# Altium footprint library IC-SMD.PCBLIB: 298 footprints (part 19 of 19)
Each footprint in its own frame and in the unit in brackets; x right, y up, seen from the top. Pads: shape width x height; smd on the part's side, far side on the other; paste and mask are expansions set on the pad; w line width, h text height; cw(c..) or ccw(c..) is an arc to the next point about the centre after c.
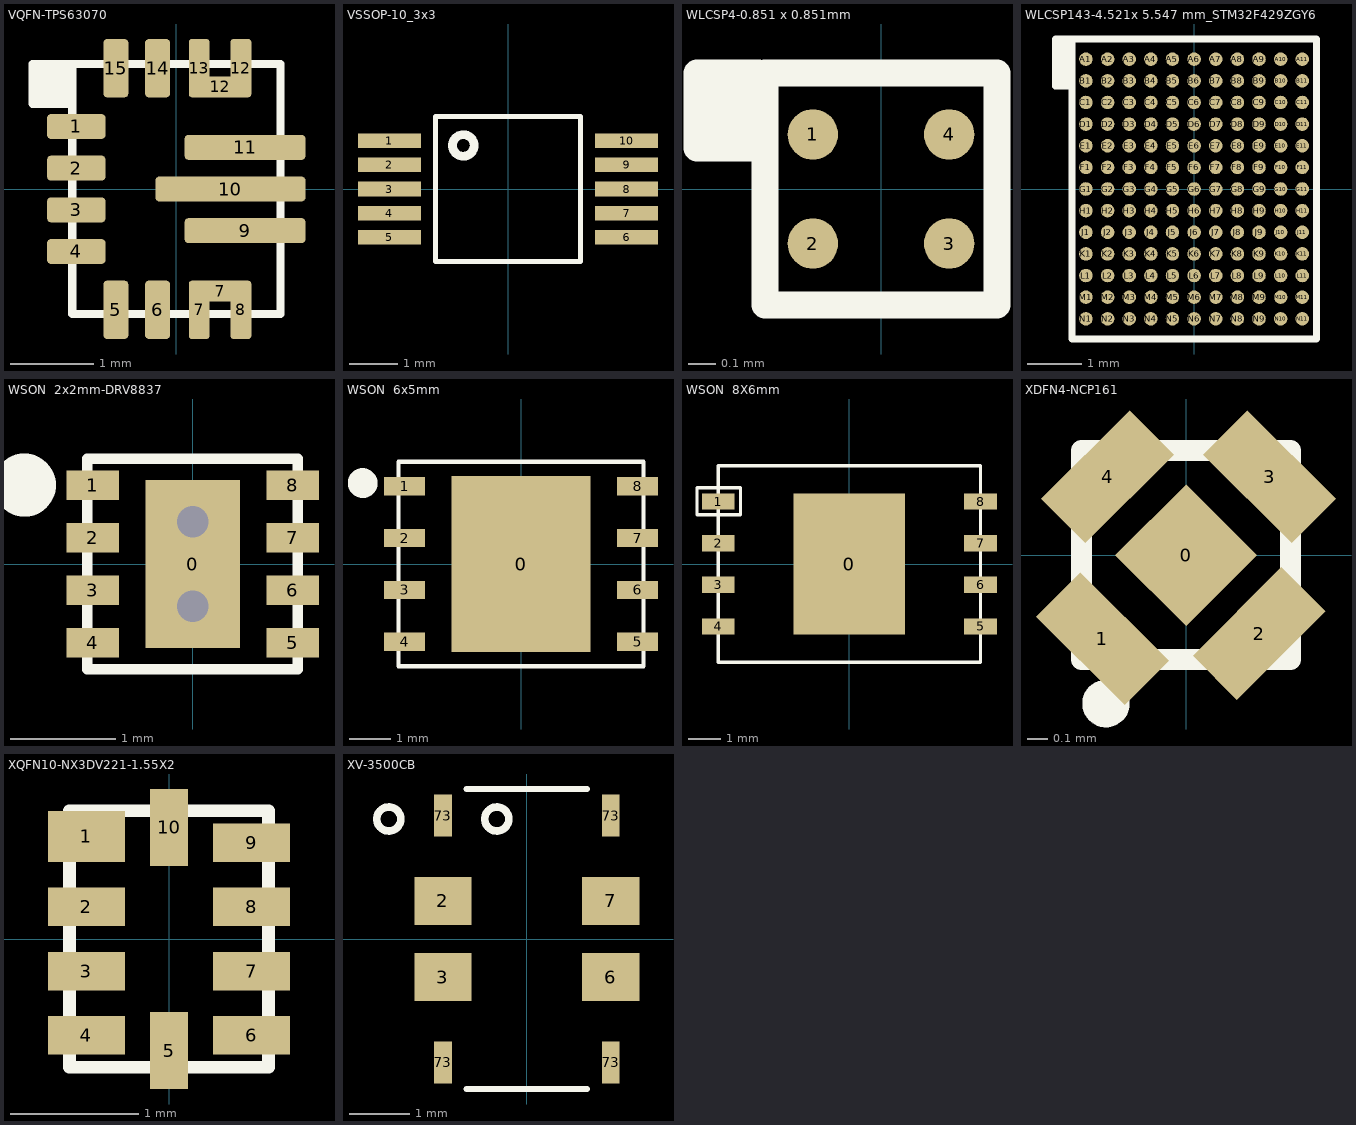
[diagram p18: the footprints below, top view; thin cyan lines are the x and y axes]

## VQFN-TPS63070 [mm] "VQFN-TPS63070"
pads (17):
  rrect30% 0.7x0.3 smd mask+0.05: 1(-1.2,0.75) 2(-1.2,0.25) 3(-1.2,-0.25) 4(-1.2,-0.75)
  rrect30% 0.3x0.7 smd mask+0.05: 5(-0.725,-1.45) 6(-0.225,-1.45) 14(-0.225,1.45) 15(-0.725,1.45)
  rrect30% 0.25x0.7 smd mask+0.05: 7(0.275,-1.45) 8(0.775,-1.45) 12(0.775,1.45) 13(0.275,1.45)
  rrect30% 0.7x0.25 smd mask+0.05: 7(0.525,-1.225) 12(0.525,1.225)
  rrect30% 1.45x0.3 smd mask+0.05: 9(0.825,-0.5) 11(0.825,0.5)
  rrect30% 1.8x0.3 smd mask+0.05: 10(0.65,0)
TopOverlay:
  rectangle: -1.725,1.05 -1.25,1.5
  lines w0.1: -1.25,1.025 -1.725,1.025 -1.725,1.5 -1.25,1.5 ; -1.25,1.5 1.25,1.5 1.25,-1.5 -1.25,-1.5 -1.25,1.5

## VSSOP-10_3x3 [mm] "VSSOP-10_3x3"
pads (10):
  rect 1.3x0.3 smd: 1(-2.45,1) 2(-2.45,0.5) 3(-2.45,0) 4(-2.45,-0.5) 5(-2.45,-1) 6(2.45,-1) 7(2.45,-0.5) 8(2.45,0) 9(2.45,0.5) 10(2.45,1)
TopOverlay:
  circle w0.18: c-0.924,0.9 r0.224
  lines w0.1: -1.5,-1.5 1.5,-1.5 1.5,1.5 -1.5,1.5 -1.5,-1.5

## WLCSP4-0.851 x 0.851mm [mm] "WLCSP4-0.851 x 0.851mm"
pads (4):
  round 0.185 smd mask+0.05: 1(-0.25,0.2) 2(-0.25,-0.2) 3(0.25,-0.2) 4(0.25,0.2)
TopLayer:
  pour cut-out: -0.65,0.4
TopOverlay:
  lines w0.1: -0.6,0.15 -0.6,0.425 ; -0.525,0.15 -0.525,0.425 ; -0.675,0.15 -0.675,0.425 -0.45,0.425 -0.45,0.15 -0.675,0.15 ; -0.426,-0.426 0.426,-0.426 0.426,0.426 -0.426,0.426 -0.426,-0.426

## WLCSP143-4.521x 5.547 mm_STM32F429ZGY6 [mm] "WLCSP143-4.521x 5.547 mm_STM32F429ZGY6"
pads (143):
  round 0.25 smd mask+0.05: A1(-2,2.4) A2(-1.6,2.4) A3(-1.2,2.4) A4(-0.8,2.4) A5(-0.4,2.4) A6(0,2.4) A7(0.4,2.4) A8(0.8,2.4) A9(1.2,2.4) A10(1.6,2.4) A11(2,2.4) B1(-2,2) B2(-1.6,2) B3(-1.2,2) B4(-0.8,2) B5(-0.4,2) B6(0,2) B7(0.4,2) B8(0.8,2) B9(1.2,2) B10(1.6,2) B11(2,2) C1(-2,1.6) C2(-1.6,1.6) C3(-1.2,1.6) C4(-0.8,1.6) C5(-0.4,1.6) C6(0,1.6) C7(0.4,1.6) C8(0.8,1.6) C9(1.2,1.6) C10(1.6,1.6) C11(2,1.6) D1(-2,1.2) D2(-1.6,1.2) D3(-1.2,1.2) D4(-0.8,1.2) D5(-0.4,1.2) D6(0,1.2) D7(0.4,1.2) D8(0.8,1.2) D9(1.2,1.2) D10(1.6,1.2) D11(2,1.2) E1(-2,0.8) E2(-1.6,0.8) E3(-1.2,0.8) E4(-0.8,0.8) E5(-0.4,0.8) E6(0,0.8) E7(0.4,0.8) E8(0.8,0.8) E9(1.2,0.8) E10(1.6,0.8) E11(2,0.8) F1(-2,0.4) F2(-1.6,0.4) F3(-1.2,0.4) F4(-0.8,0.4) F5(-0.4,0.4) F6(0,0.4) F7(0.4,0.4) F8(0.8,0.4) F9(1.2,0.4) F10(1.6,0.4) F11(2,0.4) G1(-2,0) G2(-1.6,0) G3(-1.2,0) G4(-0.8,0) G5(-0.4,0) G6(0,0) G7(0.4,0) G8(0.8,0) G9(1.2,0) G10(1.6,0) G11(2,0) H1(-2,-0.4) H2(-1.6,-0.4) H3(-1.2,-0.4) H4(-0.8,-0.4) H5(-0.4,-0.4) H6(0,-0.4) H7(0.4,-0.4) H8(0.8,-0.4) H9(1.2,-0.4) H10(1.6,-0.4) H11(2,-0.4) J1(-2,-0.8) J2(-1.6,-0.8) J3(-1.2,-0.8) J4(-0.8,-0.8) J5(-0.4,-0.8) J6(0,-0.8) J7(0.4,-0.8) J8(0.8,-0.8) J9(1.2,-0.8) J10(1.6,-0.8) J11(2,-0.8) K1(-2,-1.2) K2(-1.6,-1.2) K3(-1.2,-1.2) K4(-0.8,-1.2) K5(-0.4,-1.2) K6(0,-1.2) K7(0.4,-1.2) K8(0.8,-1.2) K9(1.2,-1.2) K10(1.6,-1.2) K11(2,-1.2) L1(-2,-1.6) L2(-1.6,-1.6) L3(-1.2,-1.6) L4(-0.8,-1.6) L5(-0.4,-1.6) L6(0,-1.6) L7(0.4,-1.6) L8(0.8,-1.6) L9(1.2,-1.6) L10(1.6,-1.6) L11(2,-1.6) M1(-2,-2) M2(-1.6,-2) M3(-1.2,-2) M4(-0.8,-2) M5(-0.4,-2) M6(0,-2) M7(0.4,-2) M8(0.8,-2) M9(1.2,-2) M10(1.6,-2) M11(2,-2) N1(-2,-2.4) N2(-1.6,-2.4) N3(-1.2,-2.4) N4(-0.8,-2.4) N5(-0.4,-2.4) N6(0,-2.4) N7(0.4,-2.4) N8(0.8,-2.4) N9(1.2,-2.4) N10(1.6,-2.4) N11(2,-2.4)
TopOverlay:
  rectangle: -2.561,1.9 -2.261,2.773
  lines w0.127: -2.261,1.9 -2.561,1.9 -2.561,2.773 -2.261,2.773 ; -2.261,2.773 2.261,2.773 2.261,-2.773 -2.261,-2.773 -2.261,2.773

## WSON  2x2mm-DRV8837 [mm] "WSON  2x2mm-DRV8837"
pads (9):
  rect 0.9x1.6 smd: 0(0,0)
  rect 0.5x0.28 smd: 1(-0.95,0.75) 2(-0.95,0.25) 3(-0.95,-0.25) 4(-0.95,-0.75) 5(0.95,-0.75) 6(0.95,-0.25) 7(0.95,0.25) 8(0.95,0.75)
via 0,-0.4 diameter 0.5 hole 0.3
via 0,0.4 diameter 0.5 hole 0.3
TopOverlay:
  circle w0.5: c-1.6,0.75 r0.05
  lines w0.1: -1,-1 -1,1 1,1 1,-1 -1,-1

## WSON  6x5mm [mm] "WSON  6x5mm"
pads (9):
  rect 3.4x4.3 smd: 0(0,0)
  rect 1x0.45 smd: 1(-2.85,1.905) 2(-2.85,0.635) 3(-2.85,-0.635) 4(-2.85,-1.905) 5(2.85,-1.905) 6(2.85,-0.635) 7(2.85,0.635) 8(2.85,1.905)
TopOverlay:
  circle w0.5: c-3.874,1.98 r0.114
  lines w0.1: -3,-2.5 -3,2.5 3,2.5 3,-2.5 -3,-2.5

## WSON  8X6mm [mm] "WSON  8X6mm"
pads (9):
  rect 3.4x4.3 smd: 0(0,0)
  rect 1x0.5 smd: 1(-4,1.905) 2(-4,0.635) 3(-4,-0.635) 4(-4,-1.905) 5(4,-1.905) 6(4,-0.635) 7(4,0.635) 8(4,1.905)
TopOverlay:
  lines w0.1: -4.65,1.5 -3.325,1.5 -3.325,2.325 -4.65,2.325 -4.65,1.5 ; -4,-3 4,-3 4,3 -4,3 -4,-3

## XDFN4-NCP161 [mm] "XDFN4-NCP161"
pads (5):
  rect 0.48x0.48 smd rot 45: 0(0,0)
  rect 0.3x0.6 smd rot 45: 1(-0.4,-0.4) 3(0.4,0.375)
  rect 0.3x0.6 smd rot 135: 2(0.35,-0.375) 4(-0.375,0.375)
TopOverlay:
  circle w0.127: c-0.383,-0.71 r0.05
  lines w0.1: -0.5,-0.5 0.5,-0.5 0.5,0.5 -0.5,0.5 -0.5,-0.5

## XQFN10-NX3DV221-1.55X2 [mm] "XQFN10-NX3DV221-1.55X2"
pads (10):
  rect 0.6x0.4 smd: 1(-0.645,0.8)
  rect 0.6x0.3 smd: 2(-0.645,0.25) 3(-0.645,-0.25) 4(-0.645,-0.75) 6(0.645,-0.75) 7(0.645,-0.25) 8(0.645,0.25) 9(0.645,0.75)
  rect 0.3x0.6 smd: 5(0,-0.87) 10(0,0.87)
TopOverlay:
  lines w0.1: -0.775,-1 -0.775,1 0.775,1 0.775,-1 -0.775,-1

## XV-3500CB [mm]
pads (8):
  rect 0.95x0.8 smd: 2(-1.4,0.635) 3(-1.4,-0.635) 6(1.4,-0.635) 7(1.4,0.635)
  rect 0.3x0.7 smd: 73(-1.4,-2.055) 73(-1.4,2.055) 73(1.4,-2.055) 73(1.4,2.055)
TopOverlay:
  circle w0.127: c-0.5,2 r0.2
  circle w0.127: c-2.3,2 r0.2
  lines w0.1: -1,-2.5 1,-2.5 ; -1,2.5 1,2.5